# Altium footprint library TPS61022RWUT.PcbLib: 1 footprints
Each footprint in its own frame and in the unit in brackets; x right, y up, seen from the top. Pads: shape width x height; smd on the part's side, far side on the other; paste and mask are expansions set on the pad; w line width, h text height; cw(c..) or ccw(c..) is an arc to the next point about the centre after c.
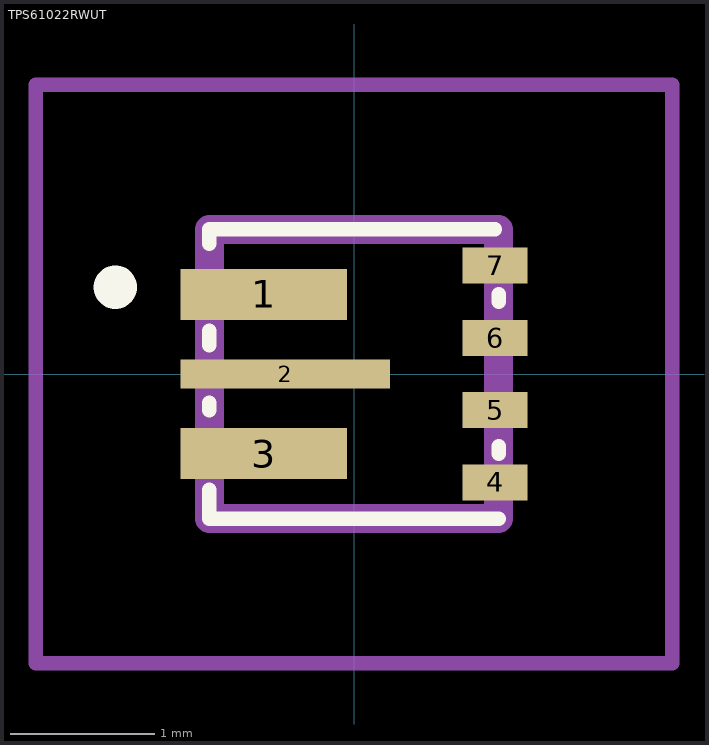
[diagram p0: the footprint, top view; thin cyan lines are the x and y axes]

## TPS61022RWUT [mm]
pads (7):
  rect 1.15x0.35 smd: 1(-0.625,0.55) 3(-0.625,-0.55)
  rect 1.45x0.2 smd: 2(-0.475,0)
  rect 0.45x0.25 smd: 4(0.975,-0.75) 5(0.975,-0.25) 6(0.975,0.25) 7(0.975,0.75)
Top Overlay:
  lines w0.1: -1,-1 -1,-0.8 ; -1,-1 -1,-1 ; -1,-1 -1,-0.8 ; -1,-1 1,-1 ; -1,-1 1,-1 ; -1,-1 -1,-1 ; -1,-0.8 -1,-0.8 ; -1,-0.25 -1,-0.2 ; -1,-0.25 -1,-0.25 ; -1,-0.25 -1,-0.2 ; -1,-0.2 -1,-0.2 ; -1,0.2 -1,0.3 ; -1,0.2 -1,0.2 ; -1,0.2 -1,0.3 ; -1,0.3 -1,0.3 ; -1,0.9 -1,1 ; -1,0.9 -1,0.9 ; -1,0.9 -1,1 ; -1,1 0.975,1 ; -1,1 0.975,1 ; -1,1 -1,1 ; -1,1 -1,1 ; 0.975,1 0.975,1 ; 1,-1 1,-1 ; 1,-0.55 1,-0.55 ; 1,-0.55 1,-0.5 ; 1,-0.55 1,-0.5 ; 1,-0.5 1,-0.5 ; 1,0.5 1,0.55 ; 1,0.5 1,0.5 ; 1,0.5 1,0.55 ; 1,0.55 1,0.55
  lines w0.2: -1.7,0.6 -1.7,0.6 ; -1.7,0.6 ccw(c-1.65,0.6) -1.6,0.6 ; -1.7,0.6 cw(c-1.65,0.6) -1.6,0.6 ; -1.7,0.6 -1.7,0.6 ; -1.7,0.6 ccw(c-1.65,0.6) -1.6,0.6 ; -1.6,0.6 -1.6,0.6
Mechanical 15:
  lines w0.2: -1,-1 1,-1 1,1 -1,1 -1,-1
Mechanical 20:
  lines w0.1: -2.2,-2 2.2,-2 2.2,2 -2.2,2 -2.2,-2